# Altium schematic symbol library RBM_ALTIUM_SCH_LIBRARY.SchLib: 47 symbols
Pins are listed as number, name and electrical type; pins without a type are passive.

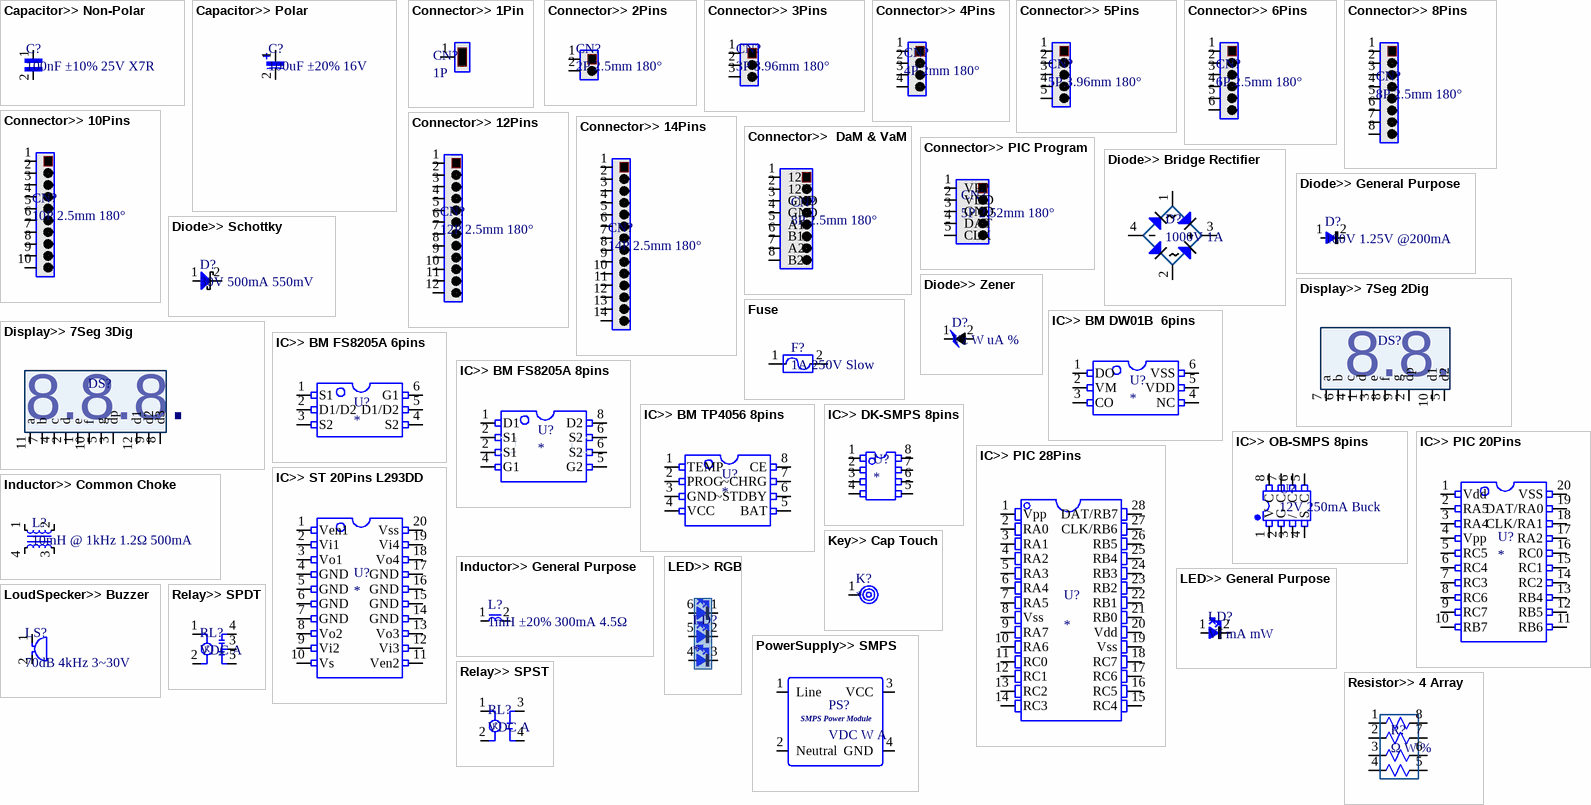
[diagram p0: symbols Capacitor>> Non-Polar to Resistor>> 4 Array]

## Capacitor>> Non-Polar
designator C?, comment 100nF ±10% 25V X7R
footprint C_0805
footprint C_X1_P10
footprint C_X2_26X12X21.5_P22.5
footprint C_0603 (0603 Multilayer Ceramic Capacitors MLCC - SMD/SMT RoHS)
footprint C_X2_18X10X16_P15
footprint C_CY_P10 (CY1222ME1IEF46X0A2; 2.2nF ±20% 400VAC 10 Through Hole,P=10mm Suppression Capacitors RoHS)
footprint C_1206 (NM1206B104K451CEGN; 100nF ±10% 450V X7R 1206 Multilayer Ceramic Capacitors MLCC - SMD/SMT RoHS)
pins: 1, 2

## Capacitor>> Polar
designator C?, comment 100uF ±20% 16V
footprint C_Radial_Ø5*11mm_P2
footprint C_Radial_Ø5*11mm_P2_Right_Angle
footprint C_Radial_Ø5*11mm _P2_Right_Angle_without_3d
footprint C_Radial_Ø6.3*11mm_P2.5
footprint C_Radial_Ø8*11mm_P3.5
footprint C_SMD_Ø4*5.4mm
footprint C_SMD_Ø5*5.4mm
footprint C_SMD_Ø6.3*5.4mm (SMD 6.3x5.4mm Aluminum Electrolytic Capacitors - SMD RoHS)
footprint C_SMD_Ø8*10mm (VKMD1002G4R7MV; 4.7uF ±20% 400V SMD,8x10mm Aluminum Electrolytic Capacitors - SMD RoHS)
footprint C_SMD_Ø10*13mm (Aluminum Electrolytic Capacitor, Body 10.30x10.30x13.50mm, IPC Low Density)
pins: 1, 2

## Connector>> 1Pin
designator CN?, comment 1P
footprint CN_Tab Terminal 187 series (Right Angle)
footprint CN_Tab Terminal 187 series (Straight)
footprint CN_Tab Terminal 250 series (Right Angle)
footprint CN_Tab Terminal 250 series (Straight)
footprint CN_Ø1.25mm_Lead (Lead Wire)
pins: 1

## Connector>> 2Pins
designator CN?, comment 2P 2.5mm 180°
footprint CN_B2B-XH-A_RED
footprint CN_B2B-XH-A_WHITE
footprint CN_PIC_MCU_Reseter_Straight
footprint CN_B2P-VH_BLUE (3.96mm Pitch)
footprint CN_B3P-VH_BLUE_AC (3.96mm Pitch)
pins: 1, 2

## Connector>> 3Pins
designator CN?, comment 3P 3.96mm 180°
footprint CN_B3P-VH_BLUE_DC (3.96mm Pitch)
pins: 1, 2, 3

## Connector>> 4Pins
designator CN?, comment 4P 2mm 180°
footprint CN_4P_A2001WR-S-XP-LCP
footprint CN_4P_A2001WV-XP-180DEG (Top Entry Header 1.25mm pitch 1X4pin  180° long)
pins: 1, 2, 3, 4

## Connector>> 5Pins
designator CN?, comment 5P 3.96mm 180°
footprint CN_B5P-VH_BLUE (3.96mm Pitch)
pins: 1, 2, 3, 4, 5

## Connector>> 6Pins
designator CN?, comment 6P 2.5mm 180°
footprint CN_B6B-XH-A_BLUE (2.5mm Pitch, 8pins, Top-Entry, XH Connector)
pins: 1, 2, 3, 4, 5, 6

## Connector>> 8Pins
designator CN?, comment 8P 2.5mm 180°
footprint CN_B8B-XH-A_BLUE (2.5mm Pitch, 8pins, Top-Entry, XH Connector)
pins: 1, 2, 3, 4, 5, 6, 7, 8

## Connector>> 10Pins
designator CN?, comment 10P 2.5mm 180°
footprint CN_B10B-XH-A_BLUE (2.5mmPitch, TopEntry, BlueColor, XH Connector)
pins: 1, 2, 3, 4, 5, 6, 7, 8, 9, 10

## Connector>> 12Pins
designator CN?, comment 12P 2.5mm 180°
footprint CN_B12B-XH-A_BLUE (2.5mmPitch, TopEntry, BlueColor, XH Connector)
pins: 1, 2, 3, 4, 5, 6, 7, 8, 9, 10, 11, 12

## Connector>> 14Pins
designator CN?, comment 14P 2.5mm 180°
footprint CN_B14B-XH-A_BLUE (2.5mmPitch, TopEntry, BlueColor, XH Connector)
pins: 1, 2, 3, 4, 5, 6, 7, 8, 9, 10, 11, 12, 13, 14

## Connector>>  DaM & VaM
designator CN?, comment 8P 2.5mm 180°
footprint CN_B8B-XH-A_BLUE
pins: 1 12V, 2 12V, 3 GND, 4 GND, 5 A1, 6 B1, 7 A2, 8 B2

## Connector>> PIC Program
designator CN?, comment 5P 2.52mm 180°
footprint CN_PIC_MCU_Debugger_RightAngle
footprint CN_PIC_MCU_Debugger_Straight
pins: 1 VPP, 2 VDD, 3 GND, 4 DAT, 5 CLK

## Diode>> Bridge Rectifier
designator D?, comment 1000V 1A
footprint D_SMD_ABS10
footprint D_SMD_MBS
pins: 1 AC, 2 AC, 3 VCC, 4 vss

## Diode>> General Purpose
designator D?, comment 100V 1.25V @200mA
footprint D_SOT-23-3_200mA (Diodes - General Purpose 100V 200mA 1.25V @ 200mA SOT-23(SOT-23-3) RoHS)
footprint D_DO-214AC (RS1M; 1000V 1A 1.3V @ 1A 500ns SMA Diodes - Rectifiers - Fast Recovery RoHS)
pins: 1 A, 2 K

## Diode>> Schottky
designator D?, comment 30V 500mA 550mV
footprint D_SOD-123_MBR0530 (Schottky diode 30V/0.5A SOD-123)
pins: 1 A, 2 K

## Diode>> Zener
designator D?, comment Vz W uA %
footprint D_SMD_LL-41
pins: 1 A, 2 K

## Display>> 7Seg 2Dig
designator DS?  (value not drawn)
footprint DS_0.56"_2DIG
pins: 1 d, 2 dp, 3 e, 4 c, 5 d2, 6 b, 7 a, 8 f, 9 g, 10 d1
text: 8.8.

## Display>> 7Seg 3Dig
designator DS?  (value not drawn)
footprint DS_0.36"_3DIG (SLR0363DWC1BD)
footprint DS_0.56"_3DIG
pins: 1 e, 2 d, 3 dp, 4 c, 5 g, 7 b, 8 d3, 9 d2, 10 f, 11 a, 12 d1
text: 8.8.8.

## Fuse
designator F?, comment 1A 250V Slow
footprint F_Radial_Ø8.5*8_P5.08 (37011000000; Through Hole,P=5.08mm Fuses with Leads (Through Hole) RoHS)
footprint F_SQUARE_8.5*8_P5.08 (Littelfuse 39211000440; TE5 Time-Lag Fuse)
pins: 1, 2

## IC>> BM DW01B  6pins
designator U?
footprint U_BM_DW01B_SOT23-6 (SOT-23-6 Battery Protection ICs RoHS)
pins: 1 DO, 2 VM, 3 CO, 4 NC, 5 VDD, 6 VSS

## IC>> BM FS8205A 6pins
designator U?
pins: 1 S1, 2 D1/D2, 3 S2, 4 S2, 5 D1/D2, 6 G1

## IC>> BM FS8205A 8pins
designator U?
footprint U_BM_FS8205A_TSSOP-8L (DualN-Channel -20V 6A 1V @ 250uA 25mO @ 4A,4.5V 1W TSSOP-8_3x4.4x065P MOSFET RoHS)
pins: 1 D1, 2 S1, 2 S1, 4 G1, 5 G2, 6 S2, 6 S2, 8 D2

## IC>> BM TP4056 8pins
designator U?
footprint U_BM_TP4056_SOP8-PP (ESOP-8 PMIC - Battery Management RoHS)
pins: 1 TEMP, 2 PROG, 3 GND, 4 VCC, 5 BAT, 6 ~STDBY, 7 ~CHRG, 8 CE

## IC>> DK-SMPS 8pins
designator U?
footprint U_DK912_TH
pins: 1, 2, 3, 4, 5, 6, 7, 8

## IC>> OB-SMPS 8pins
designator U?, comment 12V 250mA Buck
footprint U_SOP-8 (SOP, 8-Leads, Body 4.90x3.90mm, Pitch 1.27mm, Thermal Pad 2.00x1.20mm, IPC Medium Density)
pins: 1 V, 2 G, 3 /, 4 S, 5 C, 6 C, 7 C, 8 C

## IC>> PIC 20Pins
designator U?
footprint U_PIC_20Pin_SOIC (SOIC, 20-Leads, Body 12.80x7.50mm, Pitch 1.27mm, IPC Medium Density)
footprint U_PIC_20pin_SSOP (SOP, 20-Leads, Body 7.20x5.30mm, Pitch 0.65mm, IPC Medium Density)
pins: 1 Vdd, 2 RA5, 3 RA4, 4 Vpp, 5 RC5, 6 RC4, 7 RC3, 8 RC6, 9 RC7, 10 RB7, 11 RB6, 12 RB5, 13 RB4, 14 RC2, 15 RC1, 16 RC0, 17 RA2, 18 CLK/RA1, 19 DAT/RA0, 20 VSS

## IC>> PIC 28Pins
designator U?
footprint U_PIC16F18856_SSOP (SOP, 28-Leads, Body 10.20x5.30mm, Pitch 0.65mm, Thermal Pad 8.00x4.00mm, IPC Medium Density)
pins: 1 Vpp, 2 RA0, 3 RA1, 4 RA2, 5 RA3, 6 RA4, 7 RA5, 8 Vss, 9 RA7, 10 RA6, 11 RC0, 12 RC1, 13 RC2, 14 RC3, 15 RC4, 16 RC5, 17 RC6, 18 RC7, 19 Vss, 20 Vdd, 21 RB0, 22 RB1, 23 RB2, 24 RB3, 25 RB4, 26 RB5, 27 CLK/RB6, 28 DAT/RB7

## IC>> ST 20Pins L293DD
designator U?
footprint U_L293DD (SOIC, 20-Leads, Body 12.80x7.50mm, Pitch 1.27mm, Thermal Pad 9.00x4.60mm, IPC Medium Density)
pins: 1 Ven1, 2 Vi1, 3 Vo1, 4 GND, 5 GND, 6 GND, 7 GND, 8 Vo2, 9 Vi2, 10 Vs, 11 Ven2, 12 Vi3, 13 Vo3, 14 GND, 15 GND, 16 GND, 17 GND, 18 Vo4, 19 Vi4, 20 Vss

## Inductor>> Common Choke
designator L?, comment 10mH @ 1kHz 1.2Ω 500mA
footprint L_CMC_7x8mm (1~22mH, 1000~200mA)
pins: 1, 2, 3, 4

## Inductor>> General Purpose
designator L?, comment 1mH ±20% 300mA 4.5Ω
footprint L_6x10_P3
footprint L_SMD_6.0x6.0x4.5mm (YNR6045-102M;  1mH ±20% 300mA 4.5O SMD,6.0x6.0x4.5mm Power Inductors RoHS)
pins: 1, 2

## Key>> Cap Touch
designator K?
footprint K_Cap-Touch_10H-8W-0.6D
footprint K_Cap-Touch_12H-9W-0.6&1.3D
footprint K_Cap-Touch_15H-8W-0.5D
footprint K_Cap-Touch-Square_LED
footprint K_CAP.TOUCH+LED.OPTION_Ø10*10 0.4
pins: 1

## LED>> General Purpose
designator LD?, comment Vf mA mW
footprint LED_3x5_P2.5
footprint LED_SMD3528
footprint LED_SMD2835
footprint LED_SMD0603
footprint LED_4.8x5.8_P2.54 (HL-798H256WC-MD)
pins: 1 vdd, 2 vss

## LED>> RGB
designator LD?
footprint LED_PLCC5050 (EDISON RGB .2W)
pins: 1, 2, 3, 4, 5, 6

## LoudSpecker>> Buzzer
designator LS?, comment 70dB 4kHz 3~30V
PS1240P02BT, ø12.2x6.5 P5
footprint LS_12.2x6.5_P5_PS1240P02BT
pins: 1 vdd, 2 vss

## PowerSupply>> SMPS
designator PS?, comment VDC W A
footprint PS_HP03S1200WJ_SMPS_12VDC-3W
footprint PS_ZP10S1200W_SMPS_12VDC-10W
pins: 1 Line, 2 Neutral, 3 VCC, 4 GND
text: SMPS Power Module

## Relay>> SPDT
designator RL?, comment VDC A
footprint RL_SPDT_10ARelay_AZ943-1CH-12DE
pins: 1, 2, 3 COM, 4 NO, 5 NC
text: K

## Relay>> SPST
designator RL?, comment VDC A
footprint RL_SPST_5ARelay_AZ7709-1AB-12DE
footprint RL_SPST_15ARelay_AZ943-1AH-12DE
pins: 1, 2, 3, 4
text: K

## Resistor>> 4 Array
designator R?, comment Ω W %
footprint R_0603_4_array (Chip Array, Concave, 8-Leads, Pitch 0.80mm,  Body 3.20x1.60mm,  IPC Medium Density)
pins: 1, 2, 3, 4, 5, 6, 7, 8

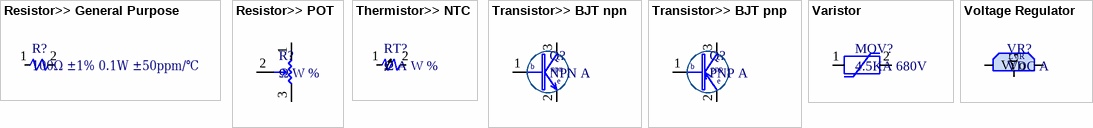
[diagram p1: symbols Resistor>> General Purpose to Voltage Regulator]

## Resistor>> General Purpose
designator R?, comment 100Ω ±1% 0.1W ±50ppm/℃
footprint R_0805
footprint R_1206
footprint R_2512 (Chip Resistor, 2-Leads, Body 6.35x3.10mm, IPC Medium Density)
footprint R_Axial_P15 (Resistors 12mm Length)
footprint R_Axial_P10 (Resistors 7mm Length)
footprint R_Axial_P13 (Resistors 10.5mm Length)
footprint R_Radial_P5 (All Through Hole Resistors)
footprint R_1812 (Chip Resistor, 2-Leads, Body 4.50x3.00mm, IPC Medium Density)
footprint R_0603 (RK73G1JTTD1000F; 0603 Chip Resistor - Surface Mount RoHS)
pins: 1, 2

## Resistor>> POT
designator R?, comment Ω W %
footprint R_POT
pins: 1 VDD, 2 POT, 3 VSS
text: Var

## Thermistor>> NTC
designator RT?, comment Ω A W %
footprint NTC_5mmPitch
pins: 1, 2

## Transistor>> BJT npn
designator Q?, comment NPN A
footprint Q_SOT-23_NPN (NPN 200mA 40V 250mW SOT-23(SOT-23-3))
pins: 1 Base, 2 Emitter, 3 Collector
text: c; b; npn; e

## Transistor>> BJT pnp
designator Q?, comment PNP A
footprint Q_SOT-23_PNP (PNP 500mA -45V 250mW SOT-23(SOT-23-3))
pins: 1 Base, 2 Emitter, 3 Collector
text: c; b; pnp; e

## Varistor
designator MOV?, comment 4.5KA 680V
footprint MOV_10D471
footprint MOV_14D561K
pins: 1, 2

## Voltage Regulator
designator VR?, comment VDC A
footprint VR_SOT89 (SOT89, 3-Leads, Body 4.50x2.45mm, Pitch 1.50mm, Lead Span 4.1mm - Reverse Pinning, IPC Medium Density)
footprint VR_TO-252-2(DPAK) (D-PAK, 3-Pads, Body 6.20x6.61mm (max), IPC Medium Density)
pins: GND G, V-IN Vi, V-OUT Vo
text: LVR